# Altium integrated library Транзисторы биполятные.IntLib: 8 symbols
Pins are listed as number, name and electrical type; pins without a type are passive.

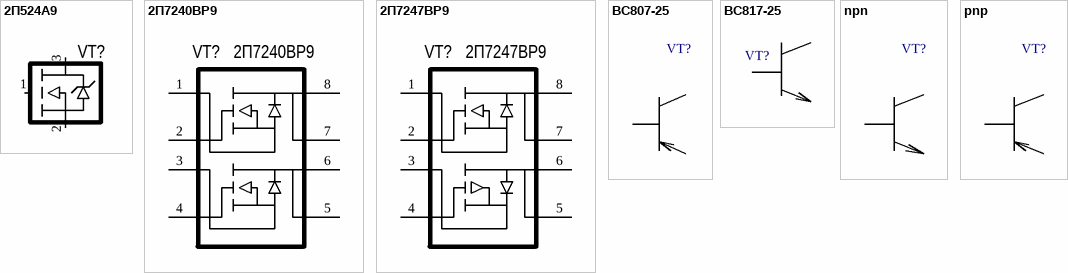
[diagram p0: symbols 2П524А9 to pnp]

## 2П524А9
designator VT?  (value not drawn)
footprint КТ-99-1
pins: 1, 2, 3

## 2П7240ВР9
designator VT?
footprint SOIC-8
pins: 1, 2, 3, 4, 5, 6, 7, 8

## 2П7247ВР9
designator VT?
footprint SOIC-8
pins: 1, 2, 3, 4, 5, 6, 7, 8

## BC807-25
designator VT?  (value not drawn)
footprint SOT23-3
pins: 1 B, 2 E, 3 C

## BC817-25
designator VT?  (value not drawn)
footprint SOT23-3
pins: 1 B, 2 E, 3 C

## npn
designator VT?  (value not drawn)
footprint SOT23-3
pins: 1 B, 2 E, 3 C

## pnp
designator VT?  (value not drawn)
footprint SOT23-3
pins: 1 B, 2 E, 3 C

## РЫБА
designator C?  (value not drawn)
Rem: *; Package: *; Value: *; Tolerance: *; Power/Voltage: *; TKE: *; ManufacturerPartNumber: *; Manufacturer: *; Quantity: *; Примечание: *